# EAGLE library part USB6B1 (library Zoli2_2015-01-28)
USB channel protector
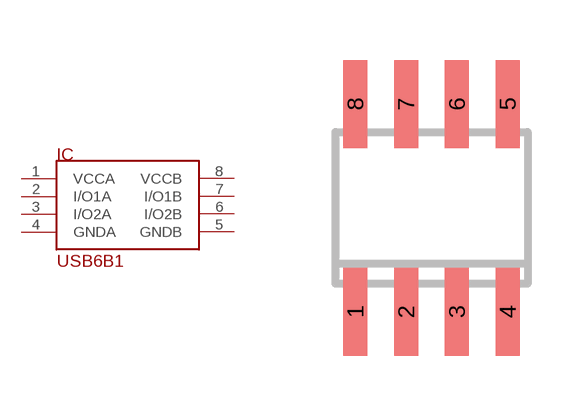
[diagram p3: symbol with the pads of SO8; footprint SO8]

Designator prefix IC

## USB6B1  [SO8]
1  VCCA  pas
2  I/O1A  pas
3  I/O2A  pas
4  GNDA  pas
5  GNDB  pas
6  I/O2B  pas
7  I/O1B  pas
8  VCCB  pas

## Footprint SO8 (pad centres in mm)
smd 0.6 x 2.2: 1 -1.905,-2.6; 2 -0.635,-2.6; 3 0.635,-2.6; 4 1.905,-2.6; 5 1.905,2.6; 6 0.635,2.6; 7 -0.635,2.6; 8 -1.905,2.6